# Altium schematic symbol library TP4102.SchLib: 1 symbol
Pins are listed as number, name and electrical type; pins without a type are passive.

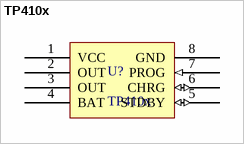
[diagram p0: symbol TP410x]

## TP410x
designator U?
footprint DFN-8_EP_3x3mm
pins: 1 VCC, 2 OUT (power), 3 OUT (power), 4 BAT (power), 5 STDBY (io), 6 CHRG (io), 7 PROG (in), 8 GND (power)